# EAGLE library part AT25M02 (library Badge)
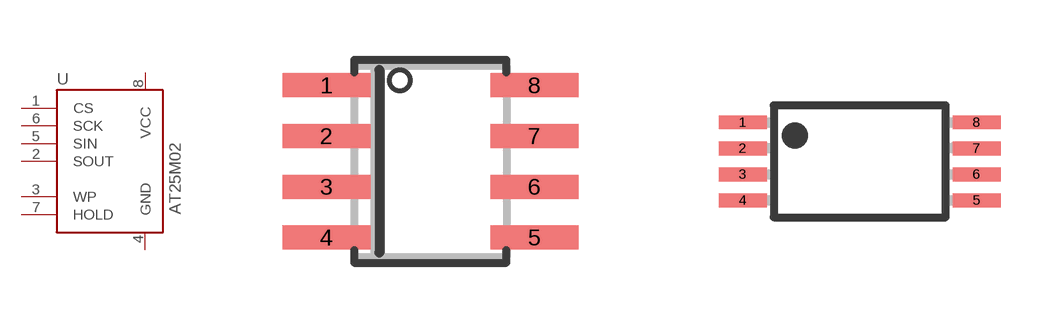
[diagram p1: symbol with the pads of SOIC8; footprints SOIC8, TSSOP8]

Designator prefix U

## AT25M02_SOIC  [SOIC8]
1  CS
2  SOUT
3  WP
4  GND
5  SIN
6  SCK
7  HOLD
8  VCC

## AT25M02_TSSOP  [TSSOP8]
Pads as for SOIC8

## Footprint SOIC8 (pad centres in mm)
Small Outline IC
smd 2.2 x 0.6: 1 -2.6,1.905; 2 -2.6,0.635; 3 -2.6,-0.635; 4 -2.6,-1.905; 5 2.6,-1.905; 6 2.6,-0.635; 7 2.6,0.635; 8 2.6,1.905

## Footprint TSSOP8 (pad centres in mm)
Plastic Small Outline
smd 1.2 x 0.35: 1 -2.925,0.975; 2 -2.925,0.325; 3 -2.925,-0.325; 4 -2.925,-0.975; 5 2.925,-0.975; 6 2.925,-0.325; 7 2.925,0.325; 8 2.925,0.975